# Altium footprint library DXPpcb.PCBLIB: 575 footprints (part 19 of 36)
Each footprint in its own frame and in the unit in brackets; x right, y up, seen from the top. Pads: shape width x height; smd on the part's side, far side on the other; paste and mask are expansions set on the pad; w line width, h text height; cw(c..) or ccw(c..) is an arc to the next point about the centre after c.
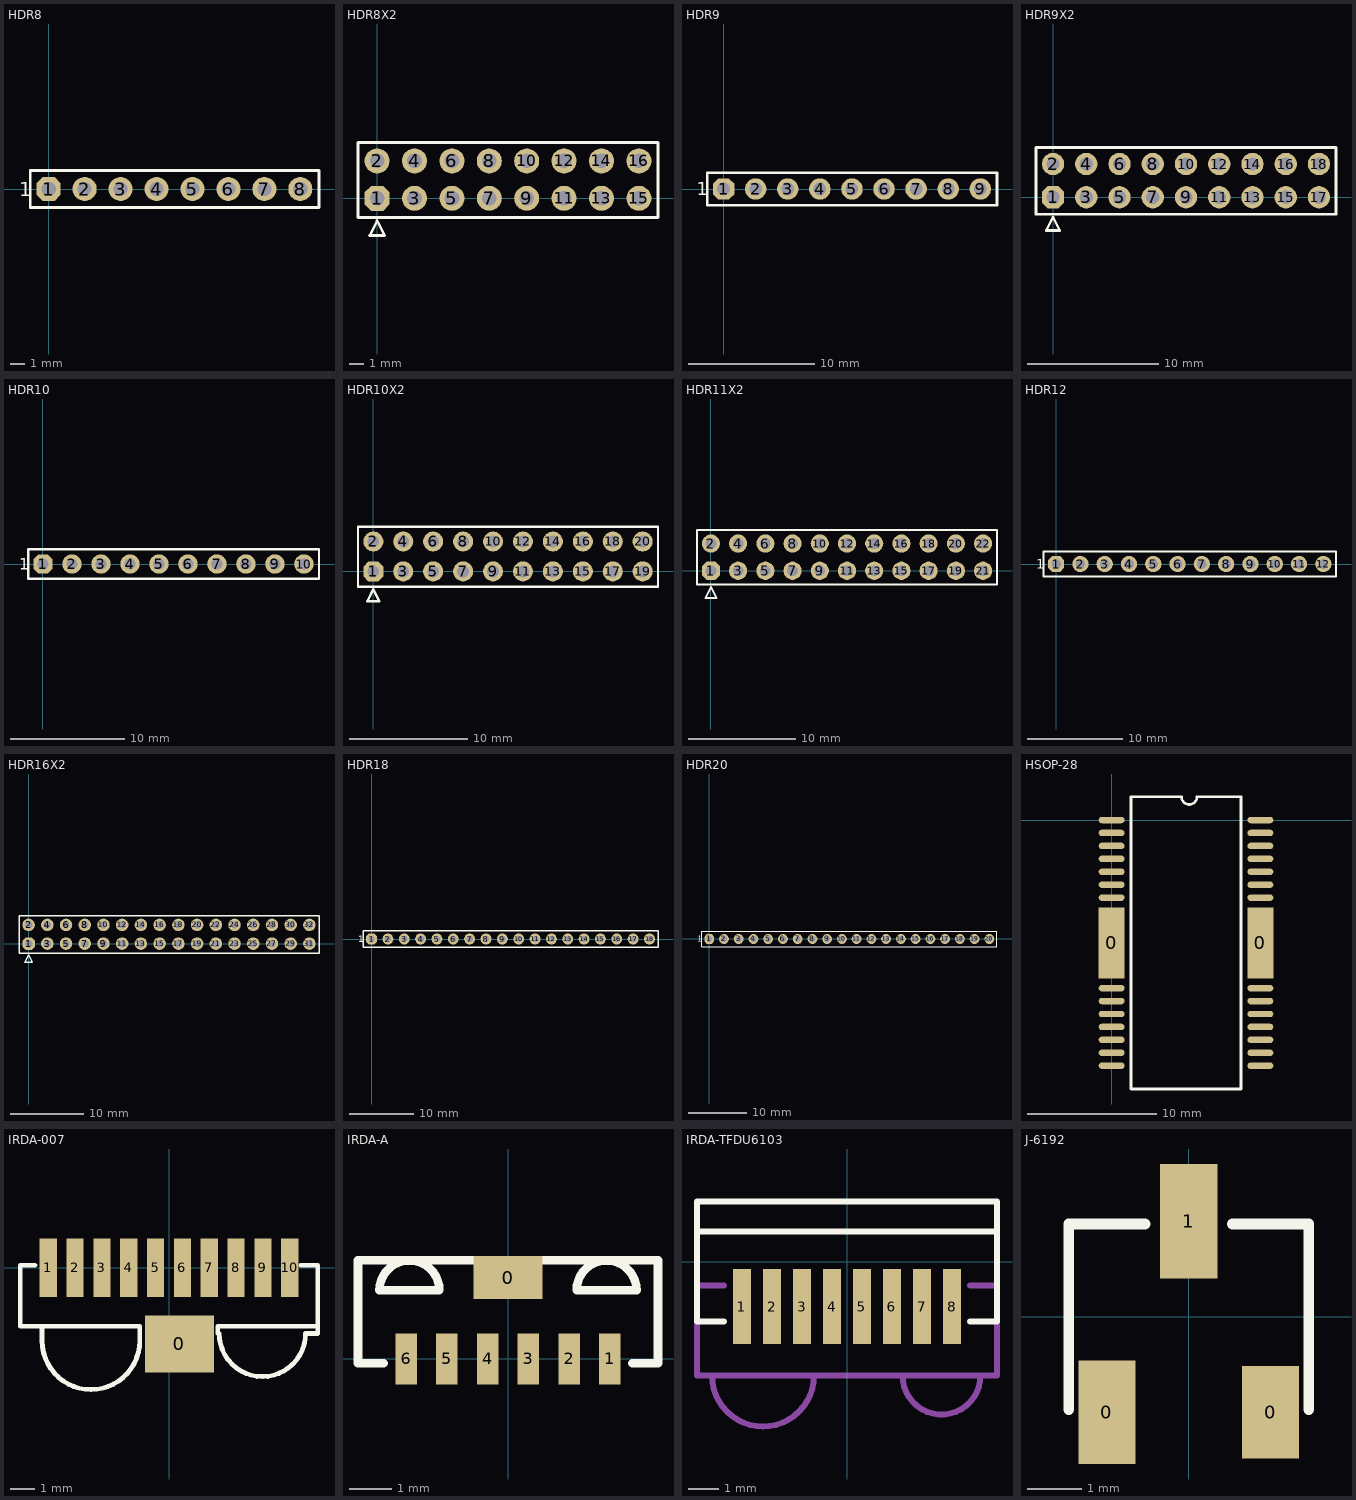
[diagram p18: the footprints below, top view; thin cyan lines are the x and y axes]

## HDR8 [mm]
pads (8):
  oct 1.7x1.7 hole 1: 1(0,0)
  round 1.7 hole 1: 2(2.54,0) 3(5.08,0) 4(7.62,0) 5(10.16,0) 6(12.7,0) 7(15.24,0) 8(17.78,0)
TopOverlay:
  lines w0.2: -1.3,-1.3 -1.3,1.3 19.1,1.3 19.1,-1.3 -1.3,-1.3
  text "1" at -2.1,-0.5 h1

## HDR8X2 [mm]
pads (16):
  oct 1.7x1.7 hole 1: 1(0,0)
  round 1.7 hole 1: 2(0,2.54) 3(2.54,0) 4(2.54,2.54) 5(5.08,0) 6(5.08,2.54) 7(7.62,0) 8(7.62,2.54) 9(10.16,0) 10(10.16,2.54) 11(12.7,0) 12(12.7,2.54) 13(15.24,0) 14(15.24,2.54) 15(17.78,0) 16(17.78,2.54)
TopOverlay:
  lines w0.2: -1.3,-1.3 -1.3,3.8 19.08,3.8 19.08,-1.3 -1.3,-1.3 ; -0.508,-2.54 0,-1.524 0.508,-2.54 -0.508,-2.54

## HDR9 [mm]
pads (9):
  oct 1.7x1.7 hole 1: 1(0,0)
  round 1.7 hole 1: 2(2.54,0) 3(5.08,0) 4(7.62,0) 5(10.16,0) 6(12.7,0) 7(15.24,0) 8(17.78,0) 9(20.32,0)
TopOverlay:
  lines w0.2: -1.3,-1.3 21.64,-1.3 21.64,1.3 -1.3,1.3 -1.3,-1.3
  text "1" at -2.1,-0.5 h1

## HDR9X2 [mm]
pads (18):
  oct 1.7x1.7 hole 1: 1(0,0)
  round 1.7 hole 1: 2(0,2.54) 3(2.54,0) 4(2.54,2.54) 5(5.08,0) 6(5.08,2.54) 7(7.62,0) 8(7.62,2.54) 9(10.16,0) 10(10.16,2.54) 11(12.7,0) 12(12.7,2.54) 13(15.24,0) 14(15.24,2.54) 15(17.78,0) 16(17.78,2.54) 17(20.32,0) 18(20.32,2.54)
TopOverlay:
  lines w0.2: -1.3,-1.3 -1.3,3.8 21.62,3.8 21.62,-1.3 -1.3,-1.3 ; -0.508,-2.54 0,-1.524 0.508,-2.54 -0.508,-2.54

## HDR10 [mm]
pads (10):
  oct 1.7x1.7 hole 1: 1(0,0)
  round 1.7 hole 1: 2(2.54,0) 3(5.08,0) 4(7.62,0) 5(10.16,0) 6(12.7,0) 7(15.24,0) 8(17.78,0) 9(20.32,0) 10(22.86,0)
TopOverlay:
  lines w0.2: -1.3,-1.3 24.18,-1.3 24.18,1.3 -1.3,1.3 -1.3,-1.3
  text "1" at -2.1,-0.5 h1

## HDR10X2 [mm]
pads (20):
  oct 1.7x1.7 hole 1: 1(0,0)
  round 1.7 hole 1: 2(0,2.54) 3(2.54,0) 4(2.54,2.54) 5(5.08,0) 6(5.08,2.54) 7(7.62,0) 8(7.62,2.54) 9(10.16,0) 10(10.16,2.54) 11(12.7,0) 12(12.7,2.54) 13(15.24,0) 14(15.24,2.54) 15(17.78,0) 16(17.78,2.54) 17(20.32,0) 18(20.32,2.54) 19(22.86,0) 20(22.86,2.54)
TopOverlay:
  lines w0.2: -1.3,-1.3 24.16,-1.3 24.16,3.8 -1.3,3.8 -1.3,-1.3 ; -0.508,-2.54 0.508,-2.54 0,-1.524 -0.508,-2.54

## HDR11X2 [mm]
pads (22):
  oct 1.7x1.7 hole 1: 1(0,0)
  round 1.7 hole 1: 2(0,2.54) 3(2.54,0) 4(2.54,2.54) 5(5.08,0) 6(5.08,2.54) 7(7.62,0) 8(7.62,2.54) 9(10.16,0) 10(10.16,2.54) 11(12.7,0) 12(12.7,2.54) 13(15.24,0) 14(15.24,2.54) 15(17.78,0) 16(17.78,2.54) 17(20.32,0) 18(20.32,2.54) 19(22.86,0) 20(22.86,2.54) 21(25.4,0) 22(25.4,2.54)
TopOverlay:
  lines w0.2: -1.3,-1.3 -1.3,3.8 26.7,3.8 26.7,-1.3 -1.3,-1.3 ; -0.508,-2.54 0,-1.524 0.508,-2.54 -0.508,-2.54

## HDR12 [mm]
pads (12):
  oct 1.7x1.7 hole 1: 1(0,0)
  round 1.7 hole 1: 2(2.54,0) 3(5.08,0) 4(7.62,0) 5(10.16,0) 6(12.7,0) 7(15.24,0) 8(17.78,0) 9(20.32,0) 10(22.86,0) 11(25.4,0) 12(27.94,0)
TopOverlay:
  lines w0.2: -1.3,-1.3 -1.3,1.3 29.26,1.3 29.26,-1.3 -1.3,-1.3
  text "1" at -2.1,-0.5 h1

## HDR16X2 [mm]
pads (32):
  oct 1.7x1.7 hole 1: 1(0,0)
  round 1.7 hole 1: 2(0,2.54) 3(2.54,0) 4(2.54,2.54) 5(5.08,0) 6(5.08,2.54) 7(7.62,0) 8(7.62,2.54) 9(10.16,0) 10(10.16,2.54) 11(12.7,0) 12(12.7,2.54) 13(15.24,0) 14(15.24,2.54) 15(17.78,0) 16(17.78,2.54) 17(20.32,0) 18(20.32,2.54) 19(22.86,0) 20(22.86,2.54) 21(25.4,0) 22(25.4,2.54) 23(27.94,0) 24(27.94,2.54) 25(30.48,0) 26(30.48,2.54) 27(33.02,0) 28(33.02,2.54) 29(35.56,0) 30(35.56,2.54) 31(38.1,0) 32(38.1,2.54)
TopOverlay:
  lines w0.2: -1.3,-1.3 39.4,-1.3 39.4,3.8 -1.3,3.8 -1.3,-1.3 ; -0.508,-2.54 0.508,-2.54 0,-1.524 -0.508,-2.54

## HDR18 [mm]
pads (18):
  oct 1.7x1.7 hole 1: 1(0,0)
  round 1.7 hole 1: 2(2.54,0) 3(5.08,0) 4(7.62,0) 5(10.16,0) 6(12.7,0) 7(15.24,0) 8(17.78,0) 9(20.32,0) 10(22.86,0) 11(25.4,0) 12(27.94,0) 13(30.48,0) 14(33.02,0) 15(35.56,0) 16(38.1,0) 17(40.64,0) 18(43.18,0)
TopOverlay:
  lines w0.2: -1.3,-1.3 -1.3,1.3 44.5,1.3 44.5,-1.3 -1.3,-1.3
  text "1" at -2.1,-0.5 h1

## HDR20 [mm]
pads (20):
  oct 1.7x1.7 hole 1: 1(0,0)
  round 1.7 hole 1: 2(2.54,0) 3(5.08,0) 4(7.62,0) 5(10.16,0) 6(12.7,0) 7(15.24,0) 8(17.78,0) 9(20.32,0) 10(22.86,0) 11(25.4,0) 12(27.94,0) 13(30.48,0) 14(33.02,0) 15(35.56,0) 16(38.1,0) 17(40.64,0) 18(43.18,0) 19(45.72,0) 20(48.26,0)
TopOverlay:
  lines w0.2: -1.3,-1.3 49.58,-1.3 49.58,1.3 -1.3,1.3 -1.3,-1.3
  text "1" at -2.1,-0.5 h1

## HSOP-28 [mm]
pads (30):
  rect 2x5.5 smd: 0(0,-9.5) 0(11.5,-9.5)
  oval 2x0.5 smd: 1(0,0) 2(0,-1) 3(0,-2) 4(0,-3) 5(0,-4) 6(0,-5) 7(0,-6) 8(0,-13) 9(0,-14) 10(0,-15) 11(0,-16) 12(0,-17) 13(0,-18) 14(0,-19) 15(11.5,-19) 16(11.5,-18) 17(11.5,-17) 18(11.5,-16) 19(11.5,-15) 20(11.5,-14) 21(11.5,-13) 22(11.5,-6) 23(11.5,-5) 24(11.5,-4) 25(11.5,-3) 26(11.5,-2) 27(11.5,-1) 28(11.5,0)
TopOverlay:
  lines w0.2: 1.5,-20.8 10,-20.8 10,1.8 6.6,1.8 cw(c6,1.8) 5.4,1.8 1.5,1.8 1.5,-20.8

## IRDA-007 [mm]
pads (11):
  rect 2.84x2.35 smd: 0(0.43,-3.13)
  rect 0.7x2.4 smd: 1(-4.95,0) 2(-3.85,0) 3(-2.75,0) 4(-1.65,0) 5(-0.55,0) 6(0.55,0) 7(1.65,0) 8(2.75,0) 9(3.85,0) 10(4.95,0)
TopOverlay:
  lines w0.2: -5.5,0.1 -6.1,0.1 -6.1,-2.4 -5.2,-2.4 ; 2,-2.7 2,-2.4 6.1,-2.4 ; 2.06,-2.7 ccw(c3.83,-2.7) 5.6,-2.7 6.1,-2.7 6.1,-2.4 ; 5.4,0.1 6.1,0.1 6.1,-2.4 ; -5.2,-2.4 -5.2,-3 ccw(c-3.2,-3) -1.2,-3 -1.2,-2.4 -5.2,-2.4

## IRDA-A [mm]
pads (7):
  rect 1.6x1 smd: 0(0,1.9)
  rect 0.5x1.2 smd: 1(2.375,0) 2(1.425,0) 3(0.475,0) 4(-0.475,0) 5(-1.425,0) 6(-2.375,0)
TopOverlay:
  lines w0.2: -2.9,-0.1 -3.5,-0.1 -3.5,2.3 3.2,2.3 3.5,2.3 3.5,-0.1 2.9,-0.1 ; -3,1.6 cw(c-2.3,1.6) -1.6,1.6 -3,1.6 ; 1.6,1.6 cw(c2.3,1.6) 3,1.6 1.6,1.6

## IRDA-TFDU6103 [mm]
pads (8):
  rect 0.6x2.5 smd: 1(-3.5,-1.5) 2(-2.5,-1.5) 3(-1.5,-1.5) 4(-0.5,-1.5) 5(0.5,-1.5) 6(1.5,-1.5) 7(2.5,-1.5) 8(3.5,-1.5)
TopOverlay:
  lines w0.2: -5,1 5,1 ; -4.1,-2 -5,-2 -5,2 5,2 5,-2 4.1,-2
Mechanical3:
  lines w0.2: -4.5,-3.8 ccw(c-2.8,-3.8) -1.1,-3.8 ; -4.1,-0.8 -5,-0.8 -5,-3.8 5,-3.8 5,-0.8 4.1,-0.8 ; 1.849,-3.8 ccw(c3.15,-3.8) 4.451,-3.8

## J-6192 [mm]
pads (3):
  rect 1.05x1.9 smd: 0(-1.5,-1.75)
  rect 1.05x1.7 smd: 0(1.5,-1.75)
  rect 1.05x2.1 smd: 1(0,1.75)
TopOverlay:
  lines w0.2: -2.2,-1.7 -2.2,1.7 -0.8,1.7 ; 0.8,1.7 2.2,1.7 2.2,-1.7